# EAGLE library part M5-68P100 (library amd-mach)
AMD MACH SERIES
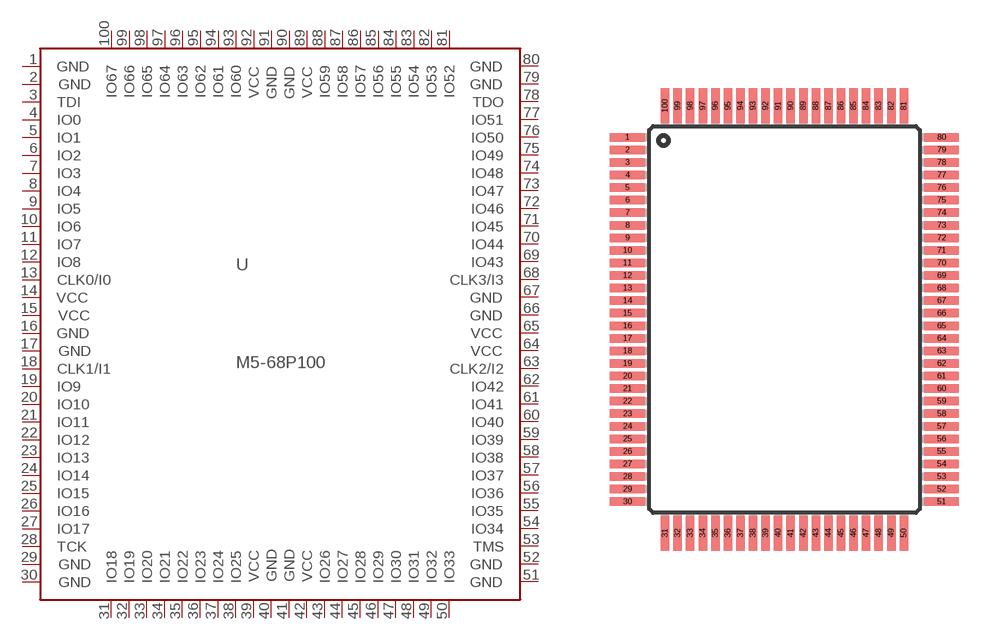
[diagram p9: symbol with the pads of PQFP100; footprint PQFP100]

Designator prefix U

## M5-68P100  [PQFP100]
1  GND  pwr
2  GND  pwr
3  TDI  in
4  IO0
5  IO1
6  IO2
7  IO3
8  IO4
9  IO5
10  IO6
11  IO7
12  IO8
13  CLK0/I0  in
14  VCC  pwr
15  VCC  pwr
16  GND  pwr
17  GND  pwr
18  CLK1/I1  in
19  IO9
20  IO10
21  IO11
22  IO12
23  IO13
24  IO14
25  IO15
26  IO16
27  IO17
28  TCK  in
29  GND  pwr
30  GND  pwr
31  IO18
32  IO19
33  IO20
34  IO21
35  IO22
36  IO23
37  IO24
38  IO25
39  VCC  pwr
40  GND  pwr
41  GND  pwr
42  VCC  pwr
43  IO26
44  IO27
45  IO28
46  IO29
47  IO30
48  IO31
49  IO32
50  IO33
51  GND  pwr
52  GND  pwr
53  TMS  in
54  IO34
55  IO35
56  IO36
57  IO37
58  IO38
59  IO39
60  IO40
61  IO41
62  IO42
63  CLK2/I2  in
64  VCC  pwr
65  VCC  pwr
66  GND  pwr
67  GND  pwr
68  CLK3/I3  in
69  IO43
70  IO44
71  IO45
72  IO46
73  IO47
74  IO48
75  IO49
76  IO50
77  IO51
78  TDO  out
79  GND  pwr
80  GND  pwr
81  IO52
82  IO53
83  IO54
84  IO55
85  IO56
86  IO57
87  IO58
88  IO59
89  VCC  pwr
90  GND  pwr
91  GND  pwr
92  VCC  pwr
93  IO60
94  IO61
95  IO62
96  IO63
97  IO64
98  IO65
99  IO66
100  IO67

## Footprint PQFP100 (pad centres in mm)
PLASTIC QUAD FLAT PACK
smd 1.8 x 0.44: 1 -8.125,9.425; 2 -8.125,8.775; 3 -8.125,8.125; 4 -8.125,7.475; 5 -8.125,6.825; 6 -8.125,6.175; 7 -8.125,5.525; 8 -8.125,4.875; 9 -8.125,4.225; 10 -8.125,3.575; 11 -8.125,2.925; 12 -8.125,2.275; 13 -8.125,1.625; 14 -8.125,0.975; 15 -8.125,0.325; 16 -8.125,-0.325; 17 -8.125,-0.975; 18 -8.125,-1.625; 19 -8.125,-2.275; 20 -8.125,-2.925; 21 -8.125,-3.575; 22 -8.125,-4.225; 23 -8.125,-4.875; 24 -8.125,-5.525; 25 -8.125,-6.175; 26 -8.125,-6.825; 27 -8.125,-7.475; 28 -8.125,-8.125; 29 -8.125,-8.775; 30 -8.125,-9.425; 51 8.125,-9.425; 52 8.125,-8.775; 53 8.125,-8.125; 54 8.125,-7.475; 55 8.125,-6.825; 56 8.125,-6.175; 57 8.125,-5.525; 58 8.125,-4.875; 59 8.125,-4.225; 60 8.125,-3.575; 61 8.125,-2.925; 62 8.125,-2.275; 63 8.125,-1.625; 64 8.125,-0.975; 65 8.125,-0.325; 66 8.125,0.325; 67 8.125,0.975; 68 8.125,1.625; 69 8.125,2.275; 70 8.125,2.925; 71 8.125,3.575; 72 8.125,4.225; 73 8.125,4.875; 74 8.125,5.525; 75 8.125,6.175; 76 8.125,6.825; 77 8.125,7.475; 78 8.125,8.125; 79 8.125,8.775; 80 8.125,9.425
smd 0.44 x 1.8: 31 -6.175,-11.05; 32 -5.525,-11.05; 33 -4.875,-11.05; 34 -4.225,-11.05; 35 -3.575,-11.05; 36 -2.925,-11.05; 37 -2.275,-11.05; 38 -1.625,-11.05; 39 -0.975,-11.05; 40 -0.325,-11.05; 41 0.325,-11.05; 42 0.975,-11.05; 43 1.625,-11.05; 44 2.275,-11.05; 45 2.925,-11.05; 46 3.575,-11.05; 47 4.225,-11.05; 48 4.875,-11.05; 49 5.525,-11.05; 50 6.175,-11.05; 81 6.175,11.05; 82 5.525,11.05; 83 4.875,11.05; 84 4.225,11.05; 85 3.575,11.05; 86 2.925,11.05; 87 2.275,11.05; 88 1.625,11.05; 89 0.975,11.05; 90 0.325,11.05; 91 -0.325,11.05; 92 -0.975,11.05; 93 -1.625,11.05; 94 -2.275,11.05; 95 -2.925,11.05; 96 -3.575,11.05; 97 -4.225,11.05; 98 -4.875,11.05; 99 -5.525,11.05; 100 -6.175,11.05